# Altium footprint library Full_lib.PcbLib: 247 footprints (part 3 of 16)
Each footprint in its own frame and in the unit in brackets; x right, y up, seen from the top. Pads: shape width x height; smd on the part's side, far side on the other; paste and mask are expansions set on the pad; w line width, h text height; cw(c..) or ccw(c..) is an arc to the next point about the centre after c.
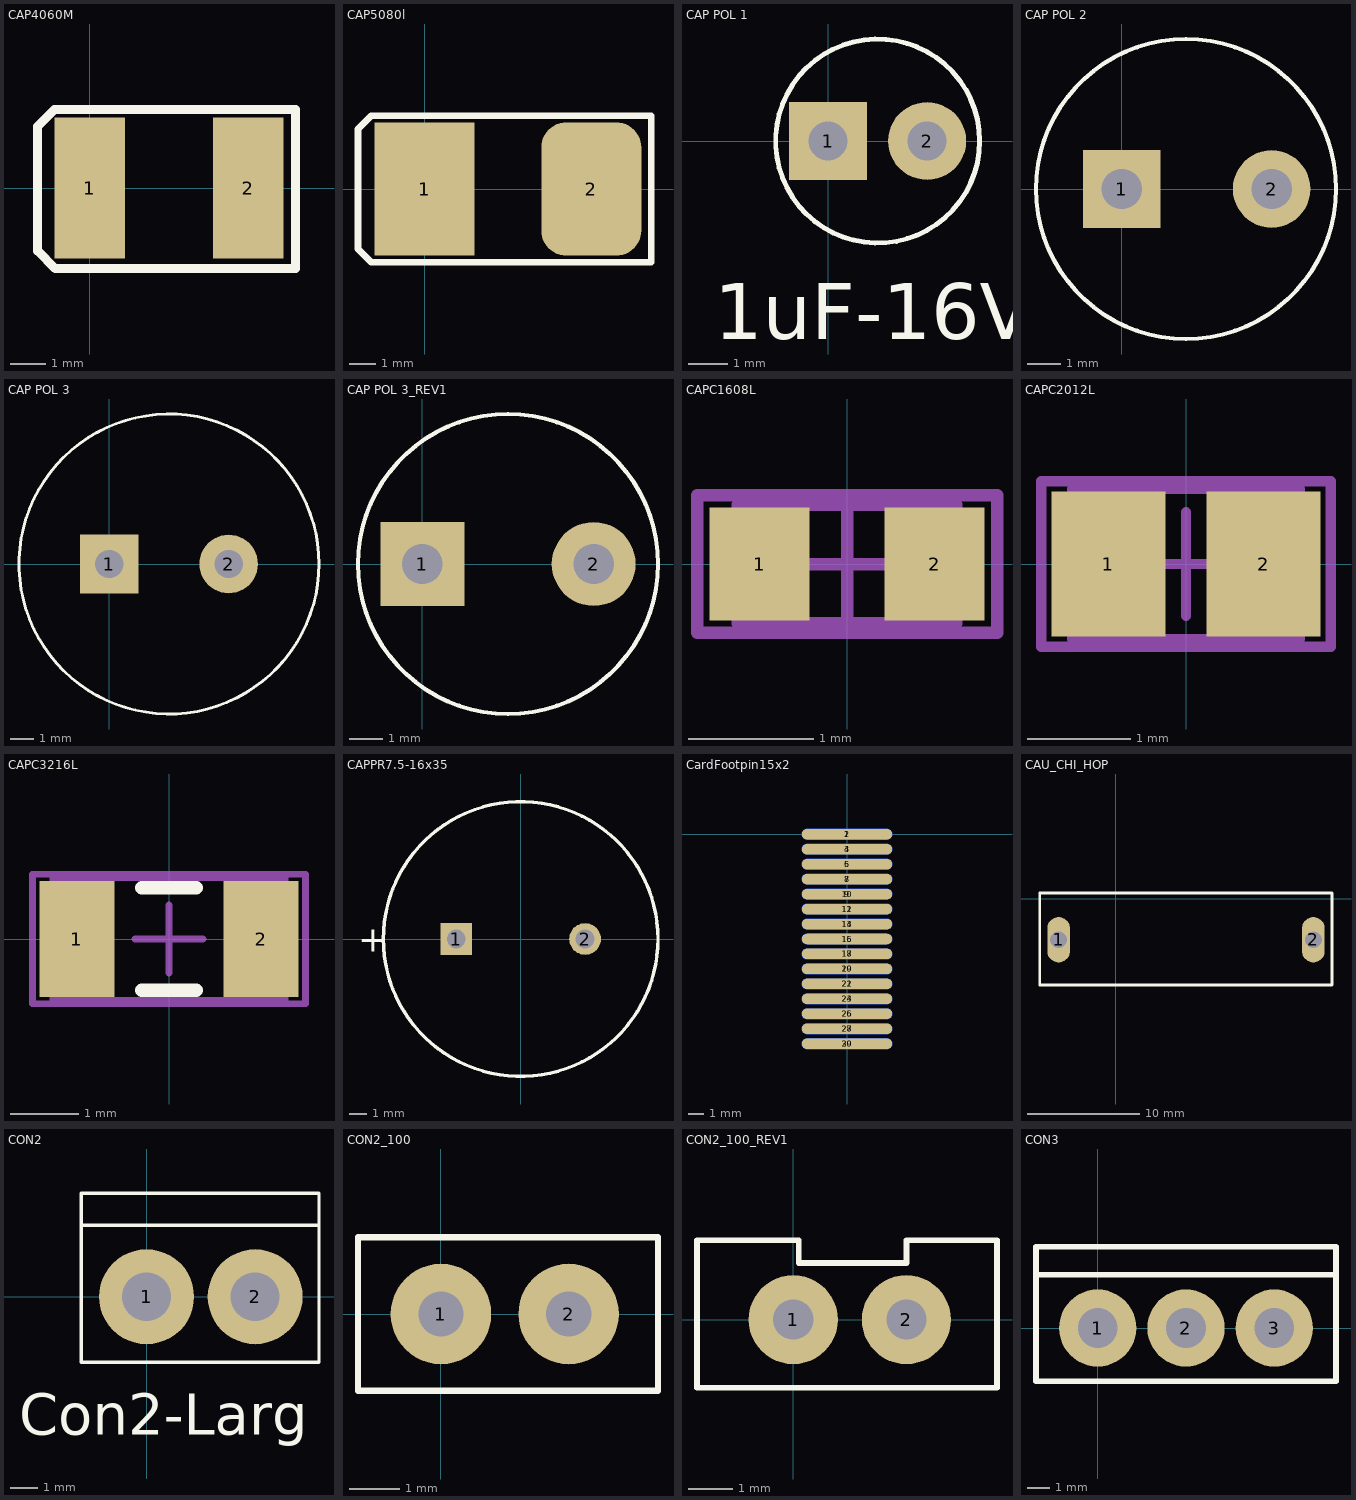
[diagram p2: the footprints below, top view; thin cyan lines are the x and y axes]

## CAP4060M [mm]
pads (2):
  rect 2x4 smd: 1(0,0) 2(4.508,0)
Top Overlay:
  lines w0.254: -1.473,-1.778 -0.965,-2.286 5.842,-2.286 5.842,2.235 -0.991,2.235 -1.473,1.753 -1.473,-1.778

## CAP5080l [mm]
pads (2):
  rect 3.81x5.08 smd: 1(0,0)
  rrect50% 3.81x5.08 smd: 2(6.35,0)
Top Overlay:
  lines w0.254: -2.54,-2.286 -2.54,2.286 -2.032,2.794 8.636,2.794 8.636,-2.794 -2.032,-2.794 -2.54,-2.286

## CAP POL 1 [mm]
pads (2):
  rect 2x2 hole 1: 1(0,0)
  round 2 hole 1: 2(2.54,0)
Top Overlay:
  circle w0.127: c1.27,0 r2.618
  text "1uF-16V" at -2.921,-5.08 h1.43

## CAP POL 2 [mm]
pads (2):
  rect 2.3x2.3 hole 1.2: 1(0,0)
  round 2.3 hole 1.2: 2(4.445,0)
Top Overlay:
  circle w0.127: c1.905,0 r4.445

## CAP POL 3 [mil]
pads (2):
  rect 98x98 hole 47.23: 1(0,0)
  round 98 hole 47.23: 2(200,0)
Top Overlay:
  circle w5: c100,0 r251.25

## CAP POL 3_REV1 [mil]
pads (2):
  rect 98x98 hole 47.23: 1(0,0)
  round 98 hole 47.23: 2(200,0)
Top Overlay:
  circle w5: c100,0 r175.07

## CAPC1608L [mm] "Chip Capacitor, Body 1.6x0.8mm, IPC High Density"
height 1.3
pads (2):
  rect 0.8x0.9 smd: 1(-0.7,0) 2(0.7,0)
Mechanical 13:
  lines w0.1: -0.875,-0.475 -0.875,0.475 0.875,0.475 0.875,-0.475 -0.875,-0.475
Mechanical 15:
  lines w0.1: -0.475,0 0.475,0 ; 0,-0.475 0,0.475 ; -1.2,-0.55 -1.2,0.55 1.2,0.55 1.2,-0.55 -1.2,-0.55
3D body: height 1.3, standoff 0, extent -0.875,-0.475 0.875,0.475

## CAPC2012L [mm]
pads (2):
  rect 1.1x1.4 smd: 1(-0.75,0) 2(0.75,0)
Mechanical 13:
  lines w0.1: -1.1,-0.725 1.1,-0.725 1.1,0.725 -1.1,0.725 -1.1,-0.725
Mechanical 15:
  lines w0.1: -0.5,0 0.5,0 ; 0,-0.5 0,0.5 ; -1.4,-0.8 1.4,-0.8 1.4,0.8 -1.4,0.8 -1.4,-0.8
3D body: height 1.4, standoff 0, extent -1.1,-0.725 1.1,0.725

## CAPC3216L [mm] "Chip Capacitor, Body 3.2x1.6mm, IPC High Density"
height 1.3
pads (2):
  rect 1.1x1.7 smd: 1(-1.35,0) 2(1.35,0)
Top Overlay:
  lines w0.2: -0.4,-0.75 0.4,-0.75 ; -0.4,0.75 0.4,0.75
Mechanical 13:
  lines w0.1: -1.7,-0.9 1.7,-0.9 1.7,0.9 -1.7,0.9 -1.7,-0.9
Mechanical 15:
  lines w0.1: -0.5,0 0.5,0 ; 0,-0.5 0,0.5 ; -2,-0.95 2,-0.95 2,0.95 -2,0.95 -2,-0.95
3D body: height 1.3, standoff 0, extent -1.7,-0.9 1.7,0.9

## CAPPR7.5-16x35 [mm] "Capacitor, Electrolytic, Radial; Body 16 x 35 mm (Dia.xH typ); Pin Spacing 7.5 mm (typ)"
height 5.08
pads (2):
  rect 1.85x1.85 hole 1.1: 1(-3.75,0)
  round 1.85 hole 1.1: 2(3.75,0)
Top Overlay:
  circle w0.2: c0,0 r8
  text "+" at -9.475,-0.75 h1.5

## CardFootpin15x2 [mm]
pads (30):
  oval 6x0.7 smd: 1(0,0) 3(0,-0.993) 5(0,-1.986) 7(0,-2.979) 9(0,-3.971) 11(0,-4.964) 13(0,-5.957) 15(0,-6.95) 17(0,-7.943) 19(0,-8.936) 21(0,-9.929) 23(0,-10.921) 25(0,-11.914) 27(0,-12.907) 29(0,-13.9)
  oval 6x0.7 smd far side: 2(0,0) 4(0,-0.993) 6(0,-1.986) 8(0,-2.979) 10(0,-3.971) 12(0,-4.964) 14(0,-5.957) 16(0,-6.95) 18(0,-7.943) 20(0,-8.936) 22(0,-9.929) 24(0,-10.921) 26(0,-11.914) 28(0,-12.907) 30(0,-13.9)

## CAU_CHI_HOP [mil]
height 787.4
pads (2):
  oval 80x158.74 hole 59.06: 1(-200,-144) 2(691,-144)
Top Overlay:
  lines w10: -266,-302 756,-302 756,19 -266,19 -266,-302

## CON2 [mm]
pads (2):
  round 3.5 hole 1.8: 1(0,0) 2(4,0)
Top Overlay:
  lines w0.127: -2.413,2.635 6.35,2.635 ; -2.413,-2.413 6.35,-2.413 6.35,3.81 -2.413,3.81 -2.413,-2.413
  text "Con2-Larg" at -4.699,-5.08 h1.5

## CON2_100 [mm]
pads (2):
  round 2 hole 0.9: 1(0,0) 2(2.54,0)
Top Overlay:
  lines w0.127: -1.651,-1.524 -1.651,1.524 -1.27,1.524 4.318,1.524 4.318,-1.524 -1.651,-1.524

## CON2_100_REV1 [mm]
pads (2):
  round 2 hole 0.9: 1(0,0) 2(2.54,0)
Top Overlay:
  lines w0.127: -2.159,-1.524 -2.159,1.778 0.127,1.778 0.127,1.27 2.54,1.27 2.54,1.778 4.572,1.778 4.572,-1.524 -2.159,-1.524

## CON3 [mm]
pads (3):
  round 3.5 hole 1.8: 1(0,0) 2(4,0) 3(8,0)
Top Overlay:
  lines w0.254: -2.794,2.413 10.668,2.413 ; -2.794,-2.413 -2.794,3.683 10.795,3.683 10.795,-2.413 -2.794,-2.413